# EAGLE library part 555078-1 (library con-amp)
AMP connector
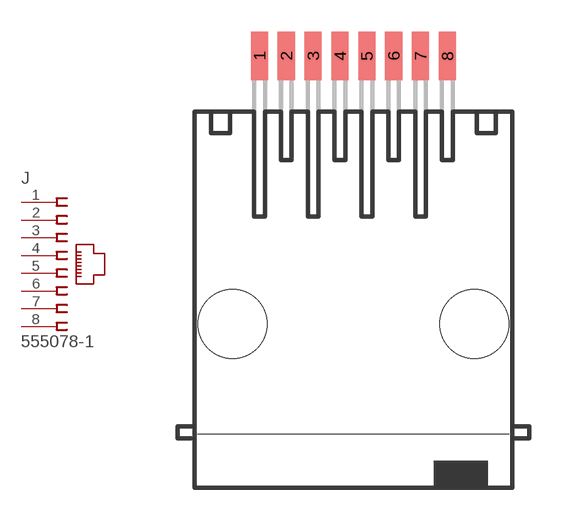
[diagram p37: symbol with the pads of 555078-1; footprint 555078-1]

Designator prefix J

## 555078-1 (MPN: 5555078-1; OC_FARNELL: 1771058; OC_NEWARK: 19R2773)  [555078-1]
1  1  pas
2  2  pas
3  3  pas
4  4  pas
5  5  pas
6  6  pas
7  7  pas
8  8  pas

## Footprint 555078-1 (pad centres in mm)
Modular Jack Keyed with Panel Stops
smd 0.813 x 2.286: 1 -4.445,11.533; 2 -3.175,11.533; 3 -1.905,11.533; 4 -0.635,11.533; 5 0.635,11.533; 6 1.905,11.533; 7 3.175,11.533; 8 4.445,11.533
hole 3.251 at -5.715,-1.143
hole 3.251 at 5.715,-1.143